# EAGLE library part TSW-113-02-S-S (library con-samtec)
THROUGH-HOLE .025" SQ POST HEADER Source: Samtec TSW.pdf
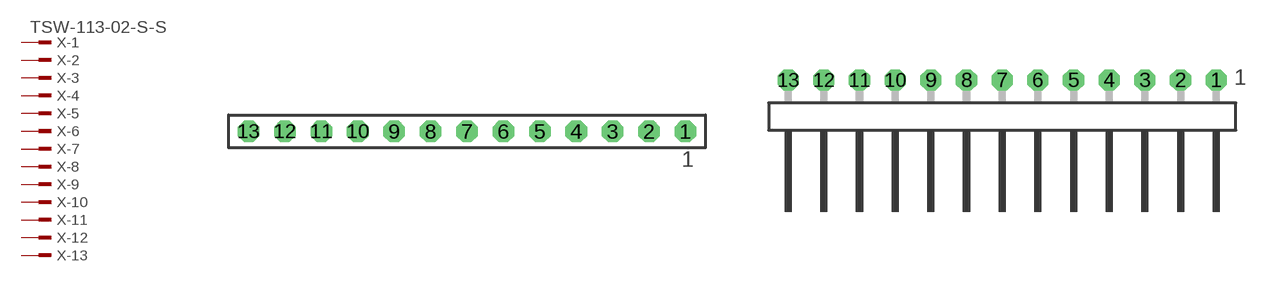
[diagram p233: symbol with the pads of TSW-113-02-S-S; footprints TSW-113-02-S-S, TSW-113-02-S-S-RA]

Designator prefix X; gates -1=MPINV -2=MPIN -3=MPIN -4=MPIN -5=MPIN -6=MPIN -7=MPIN -8=MPIN -9=MPIN -10=MPIN -11=MPIN -12=MPIN -13=MPIN

## TSW-113-02-S-S  [TSW-113-02-S-S]
1  -1:1  pas
2  -2:1  pas
3  -3:1  pas
4  -4:1  pas
5  -5:1  pas
6  -6:1  pas
7  -7:1  pas
8  -8:1  pas
9  -9:1  pas
10  -10:1  pas
11  -11:1  pas
12  -12:1  pas
13  -13:1  pas

## TSW-113-02-S-S-RA  [TSW-113-02-S-S-RA]
Pads as for TSW-113-02-S-S

## Footprint TSW-113-02-S-S (pad centres in mm)
THROUGH-HOLE .025" SQ POST HEADER Source: Samtec TSW.pdf
drill 1 pad 1.5 octagon: 1 15.24,0; 2 12.7,0; 3 10.16,0; 4 7.62,0; 5 5.08,0; 6 2.54,0; 7 0,0; 8 -2.54,0; 9 -5.08,0; 10 -7.62,0; 11 -10.16,0; 12 -12.7,0; 13 -15.24,0

## Footprint TSW-113-02-S-S-RA (pad centres in mm)
THROUGH-HOLE .025" SQ POST HEADER Source: Samtec TSW.pdf
drill 1 pad 1.5 octagon: 1 15.24,1.524; 2 12.7,1.524; 3 10.16,1.524; 4 7.62,1.524; 5 5.08,1.524; 6 2.54,1.524; 7 0,1.524; 8 -2.54,1.524; 9 -5.08,1.524; 10 -7.62,1.524; 11 -10.16,1.524; 12 -12.7,1.524; 13 -15.24,1.524